# EAGLE library part ATMEGA8 (library lib_stankus)
Atmel ATMEGA8 MCU
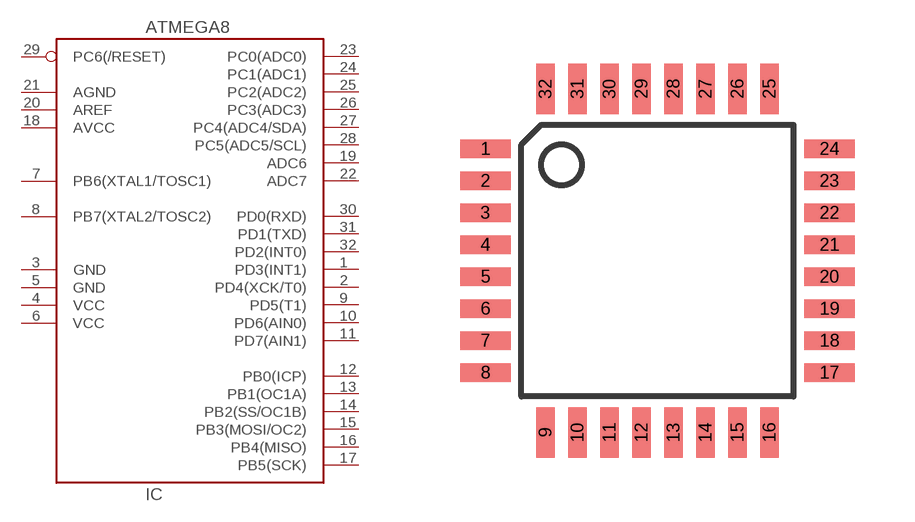
[diagram p31: symbol with the pads of QFP32_7_08; footprint QFP32_7_08]

Designator prefix IC

## ATMEGA8-QFP32  [QFP32_7_08]
1  PD3(INT1)  pas
2  PD4(XCK/T0)  pas
3  GND  pas
4  VCC  pas
5  GND  pas
6  VCC  pas
7  PB6(XTAL1/TOSC1)  pas
8  PB7(XTAL2/TOSC2)  pas
9  PD5(T1)  pas
10  PD6(AIN0)  pas
11  PD7(AIN1)  pas
12  PB0(ICP)  pas
13  PB1(OC1A)  pas
14  PB2(SS/OC1B)  pas
15  PB3(MOSI/OC2)  pas
16  PB4(MISO)  pas
17  PB5(SCK)  pas
18  AVCC  pas
19  ADC6  pas
20  AREF  pas
21  AGND  pas
22  ADC7  pas
23  PC0(ADC0)  pas
24  PC1(ADC1)  pas
25  PC2(ADC2)  pas
26  PC3(ADC3)  pas
27  PC4(ADC4/SDA)  pas
28  PC5(ADC5/SCL)  pas
29  PC6(/RESET)  pas
30  PD0(RXD)  pas
31  PD1(TXD)  pas
32  PD2(INT0)  pas

## Footprint QFP32_7_08 (pad centres in mm)
QFP32, 7x7 MM, 0.8 MM
smd 1.27 x 0.457: 1 -4.3,2.8; 2 -4.3,2; 3 -4.3,1.2; 4 -4.3,0.4; 5 -4.3,-0.4; 6 -4.3,-1.2; 7 -4.3,-2; 8 -4.3,-2.8; 17 4.3,-2.8; 18 4.3,-2; 19 4.3,-1.2; 20 4.3,-0.4; 21 4.3,0.4; 22 4.3,1.2; 23 4.3,2; 24 4.3,2.8
smd 0.457 x 1.27: 9 -2.8,-4.3; 10 -2,-4.3; 11 -1.2,-4.3; 12 -0.4,-4.3; 13 0.4,-4.3; 14 1.2,-4.3; 15 2,-4.3; 16 2.8,-4.3; 25 2.8,4.3; 26 2,4.3; 27 1.2,4.3; 28 0.4,4.3; 29 -0.4,4.3; 30 -1.2,4.3; 31 -2,4.3; 32 -2.8,4.3